# Altium footprint library INF-PG-VQFN-40L.PcbLib: 1 footprints
Each footprint in its own frame and in the unit in brackets; x right, y up, seen from the top. Pads: shape width x height; smd on the part's side, far side on the other; paste and mask are expansions set on the pad; w line width, h text height; cw(c..) or ccw(c..) is an arc to the next point about the centre after c.
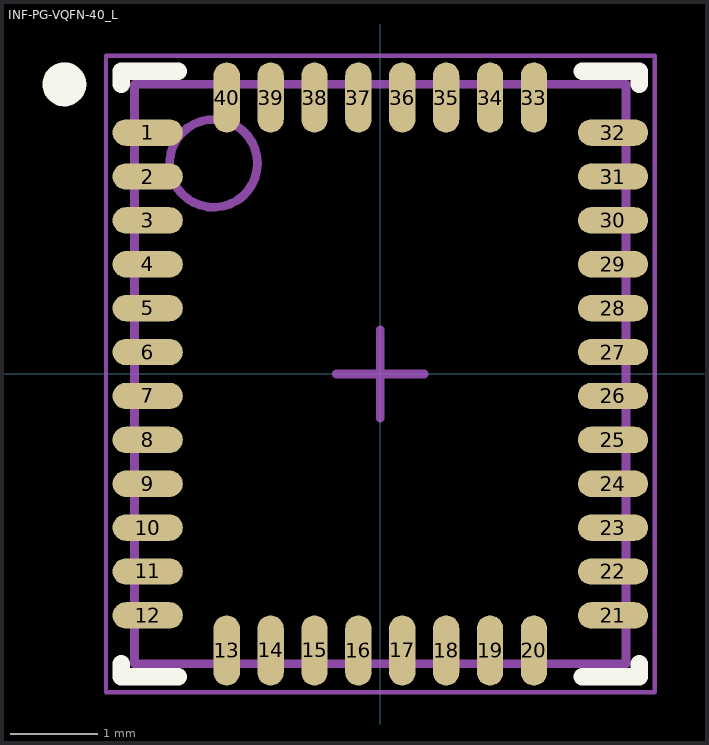
[diagram p0: the footprint, top view; thin cyan lines are the x and y axes]

## INF-PG-VQFN-40_L [mm] "QFN, 40-Leads, Body 6.5x5.5 mm, Pitch 0.5 mm, IPC High Density"
height 0.9
pads (40):
  oval 0.8x0.3 smd: 1(-2.65,2.75) 2(-2.65,2.25) 3(-2.65,1.75) 4(-2.65,1.25) 5(-2.65,0.75) 6(-2.65,0.25) 7(-2.65,-0.25) 8(-2.65,-0.75) 9(-2.65,-1.25) 10(-2.65,-1.75) 11(-2.65,-2.25) 12(-2.65,-2.75) 21(2.65,-2.75) 22(2.65,-2.25) 23(2.65,-1.75) 24(2.65,-1.25) 25(2.65,-0.75) 26(2.65,-0.25) 27(2.65,0.25) 28(2.65,0.75) 29(2.65,1.25) 30(2.65,1.75) 31(2.65,2.25) 32(2.65,2.75)
  oval 0.3x0.8 smd: 13(-1.75,-3.15) 14(-1.25,-3.15) 15(-0.75,-3.15) 16(-0.25,-3.15) 17(0.25,-3.15) 18(0.75,-3.15) 19(1.25,-3.15) 20(1.75,-3.15) 33(1.75,3.15) 34(1.25,3.15) 35(0.75,3.15) 36(0.25,3.15) 37(-0.25,3.15) 38(-0.75,3.15) 39(-1.25,3.15) 40(-1.75,3.15)
Top Overlay:
  circle w0.25: c-3.6,3.3 r0.125
  lines w0.2: -2.95,-3.3 -2.95,-3.45 -2.3,-3.45 ; -2.95,3.3 -2.95,3.45 -2.3,3.45 ; 2.3,-3.45 2.95,-3.45 2.95,-3.3 ; 2.3,3.45 2.95,3.45 2.95,3.3
Mechanical 13:
  circle w0.1: c-1.9,2.4 r0.5
  lines w0.1: -2.8,-3.3 2.8,-3.3 2.8,3.3 -2.8,3.3 -2.8,-3.3
Mechanical 15:
  lines w0.05: -3.125,-3.625 3.125,-3.625 3.125,3.625 -3.125,3.625 -3.125,-3.625
  lines w0.1: -0.5,0 0.5,0 ; 0,-0.5 0,0.5
3D body: height 0.9, standoff 0, extent -2.8,-3.3 2.8,3.3